# Altium footprint library WifiNode.PcbLib: 25 footprints (part 2 of 2)
Each footprint in its own frame and in the unit in brackets; x right, y up, seen from the top. Pads: shape width x height; smd on the part's side, far side on the other; paste and mask are expansions set on the pad; w line width, h text height; cw(c..) or ccw(c..) is an arc to the next point about the centre after c.
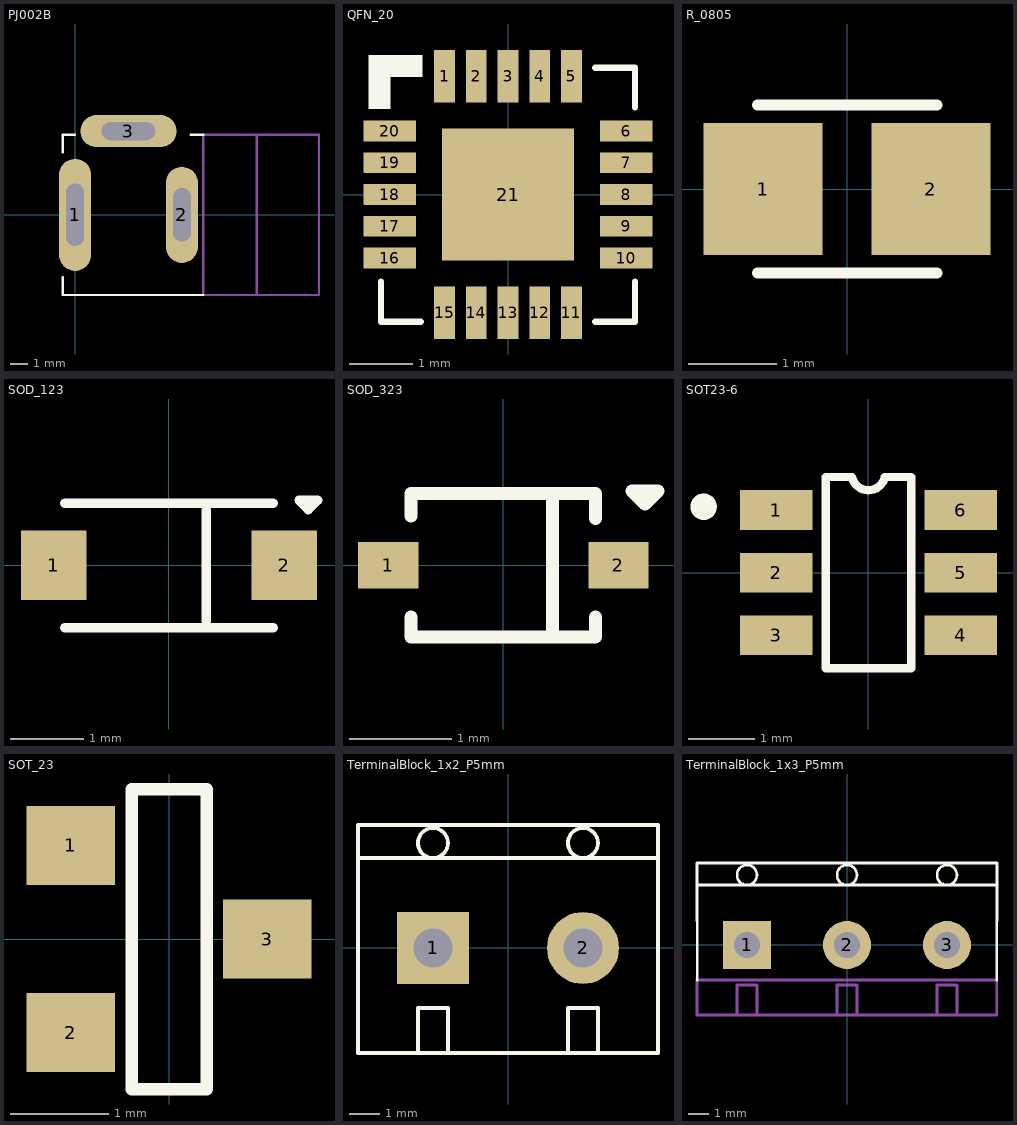
[diagram p1: the footprints below, top view; thin cyan lines are the x and y axes]

## PJ002B [mm]
pads (3):
  oval 1.8x6.3 hole 1 slot 3.5 at 90 deg: 1(0,0)
  oval 1.8x5.4 hole 1 slot 3 at 90 deg: 2(6,0)
  oval 5.4x1.8 hole 1 slot 3 at 0 deg: 3(3,4.7)
Top Overlay:
  lines w0.127: -0.7,-3.5 -0.7,-4.5 7.2,-4.5 ; -0.7,3.5 -0.7,4.5 0,4.5 ; 6.5,4.5 7.2,4.5
Mechanical 4:
  lines w0.127: 10.2,-4.5 10.2,4.5 ; 7.2,-4.5 7.2,4.5 13.7,4.5 13.7,-4.5 7.2,-4.5
3D body "User Library-PJ-002AH.STEP": height 11.05, standoff -3.45, extent -0.7,-4.7 13.7,4.7

## QFN_20 [mm]
height 0.8
pads (21):
  rect 0.325x0.825 smd: 1(-1,1.863) 2(-0.5,1.863) 3(0,1.863) 4(0.5,1.863) 5(1,1.863) 11(1,-1.863) 12(0.5,-1.863) 13(0,-1.863) 14(-0.5,-1.863) 15(-1,-1.863)
  rect 0.825x0.325 smd: 6(1.863,1) 7(1.863,0.5) 8(1.863,0) 9(1.863,-0.5) 10(1.863,-1) 16(-1.863,-1) 17(-1.863,-0.5) 18(-1.863,0) 19(-1.863,0.5) 20(-1.863,1)
  rect 2.075x2.075 smd: 21(0,0)
Top Overlay:
  region: -2.2,2.2 -2.2,1.85 -1.35,1.85 -1.35,2.2
  region: -1.85,2.101 -2.2,2.101 -2.2,1.351 -1.85,1.351
  lines w0.102: -2,-1.375 -2,-2 -1.375,-2 ; 1.375,-2 2,-2 2,-1.375 ; 1.375,2 2,2 2,1.375

## R_0805 [mm] "Chip Resistor, 2-Leads, Body 2.00x1.25mm, IPC Low Density"
height 0.65
pads (2):
  rect 1.35x1.5 smd: 1(-0.95,0) 2(0.95,0)
Top Overlay:
  lines w0.127: -1.016,-0.953 1.016,-0.953 ; -1.016,0.953 1.016,0.953
3D body "User Library-CR2012-0805.STEP": height 0.6, standoff 0, extent -1,-0.625 1,0.625
3D body: height 0.75, standoff 0, extent -0.475,-0.025 -0.475,-0.025

## SOD_123 [mm]
pads (2):
  rect 0.9x0.95 smd: 1(-1.575,0) 2(1.575,0)
Top Overlay:
  lines w0.127: -1.425,-0.85 1.425,-0.85 ; -1.425,0.85 1.425,0.85 ; 0.508,-0.762 0.508,0.762 ; 1.778,0.889 1.905,0.762 2.032,0.889 1.778,0.889
3D body "User Library-SOD-123_DiodesInc.STEP": height 0.92, standoff -0.53, extent -1.925,-0.85 1.925,0.85

## SOD_323 [mm]
pads (2):
  rect 0.59x0.45 smd: 1(-1.125,0) 2(1.125,0)
Top Overlay:
  lines w0.127: -0.9,-0.508 -0.9,-0.7 0.9,-0.7 0.9,-0.508 ; -0.9,0.483 -0.9,0.7 0.9,0.7 0.9,0.457 ; 0.483,-0.7 0.483,0.686 ; 1.257,0.724 1.384,0.597 1.511,0.724 1.257,0.724
3D body "User Library-SOD323.STEP": height 0.9, standoff -0.09, extent -1.275,-0.625 1.225,0.625

## SOT23-6 [mm]
pads (6):
  rect 1.1x0.6 smd: 1(-1.4,0.95) 2(-1.4,0) 3(-1.4,-0.95) 4(1.4,-0.95) 5(1.4,0) 6(1.4,0.95)
Top Overlay:
  circle w0.2: c-2.5,1 r0.1
  lines w0.127: -0.65,-1.45 -0.65,1.45 -0.25,1.45 ccw(c0,1.506) 0.25,1.45 0.65,1.45 0.65,-1.45 -0.65,-1.45
3D body "User Library-SOT23-6-2.STEP": height 1.45, standoff 0, extent -1.4,-1.45 1.4,1.45

## SOT_23 [mm]
pads (3):
  rect 0.9x0.8 smd: 1(-1,0.95) 2(-1,-0.95) 3(1,0)
Top Overlay:
  lines w0.127: -0.381,-1.524 -0.381,1.524 0.381,1.524 0.381,-1.524 -0.381,-1.524
3D body "User Library-SOT95P240X110-3M[SOT23-3_TO-236AB].STEP": height 1.09, standoff 0, extent -1.189,-1.482 1.311,1.518

## TerminalBlock_1x2_P5mm [mm]
pads (2):
  rect 2.4x2.4 hole 1.3 unplated: 1(-2.5,0)
  round 2.4 hole 1.3 unplated: 2(2.5,0)
Top Overlay:
  circle w0.127: c2.5,3.5 r0.5
  circle w0.127: c-2.5,3.5 r0.5
  lines w0.127: -5,3 5,3 ; -3,-3.5 -3,-2 -2,-2 -2,-3.5 ; 2,-3.5 2,-2 3,-2 3,-3.5 ; -5,-3.5 -5,4.1 5,4.1 5,-3.5 -5,-3.5

## TerminalBlock_1x3_P5mm [mm]
pads (3):
  rect 2.4x2.4 hole 1.3: 1(-5,0)
  round 2.4 hole 1.3: 2(0,0) 3(5,0)
Top Overlay:
  circle w0.127: c0,3.5 r0.5
  circle w0.127: c-5,3.5 r0.5
  circle w0.127: c5,3.5 r0.5
  lines w0.127: -7.5,3 7.5,3 ; -7.493,-1.75 -7.5,4.1 7.5,4.1 7.493,-1.75
Mechanical 4:
  lines w0.127: -7.5,-1.722 -7.5,-3.5 7.5,-3.5 ; -7.493,-1.75 7.493,-1.75 7.493,-3.5 ; -5.5,-3.5 -5.5,-2 -4.5,-2 -4.5,-3.5 ; -0.5,-3.5 -0.5,-2 0.5,-2 0.5,-3.5 ; 4.5,-3.5 4.5,-2 5.5,-2 5.5,-3.5
3D body "CUI_DEVICES_TB002-500-P03BE.step": height 10, standoff -4.35, extent -8.075,-3.525 7.425,4.075